# Altium schematic symbol library switch-alps.SCHLIB: 1 symbol
Pins are listed as number, name and electrical type; pins without a type are passive.

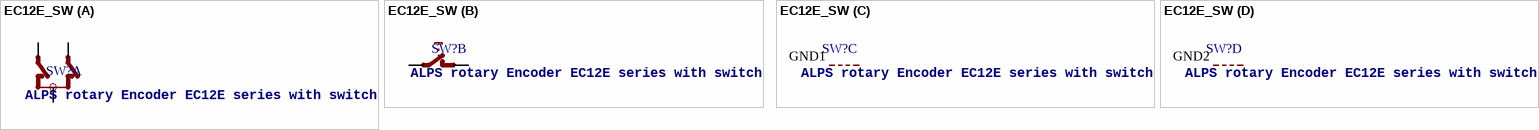
[diagram p0: symbol EC12E_SW]

## EC12E_SW
designator SW?, comment ALPS rotary Encoder EC12E series with switch
MPN: EC12E2424407; OC_FARNELL: 1520813; OC_NEWARK: 74M1068
footprint ALPS_EC12E_SW
part A pins: A, B, C
part B pins: D 1, E 2
part C pins: GND1 G
part D pins: GND2 G